# Altium schematic symbol library ERA-6AEB2742V.SchLib: 1 symbol
Pins are listed as number, name and electrical type; pins without a type are passive.

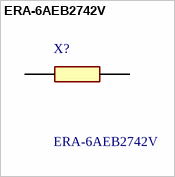
[diagram p0: symbol ERA-6AEB2742V]

## ERA-6AEB2742V
designator X?
Thin Film Resistors - SMD 0805 27.4Kohm 0.1% 25ppm; Manufacturer_Name: Panasonic; Geometry.Height: 0.6mm; Manufacturer_Part_Number: ERA-6AEB2742V; Mouser Part Number: 667-ERA-6AEB2742V; Mouser Price/Stock: https://www.mouser.co.uk/ProductDetail/Panasonic/ERA-6AEB2742V?qs=nuXzIS8loXHdFK0i8oIpgw%3D%3D; Arrow Part Number: *; Arrow Price/Stock: *; Mouser Testing Part Number: *; Mouser Testing Price/Stock: *; Datasheet Link: http://industrial.panasonic.com/cdbs/www-data/pdf/RDM0000/AOA0000C307.pdf
footprint ERA6A_(0805)
pins: 1, 2